# EAGLE library part MCP23009 (library AMP2-ICs)
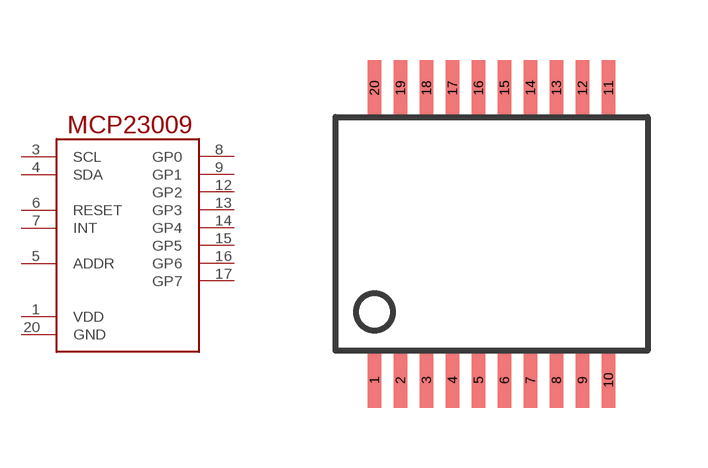
[diagram p70: symbol with the pads of SSOP20BU; footprint SSOP20BU]

Designator prefix -

## MCP23009  [SSOP20BU]
1  VDD
3  SCL
4  SDA
5  ADDR
6  RESET
7  INT
8  GP0
9  GP1
12  GP2
13  GP3
14  GP4
15  GP5
16  GP6
17  GP7
20  GND

## Footprint SSOP20BU (pad centres in mm)
Small Shrink Outline Package
smd 0.348 x 1.397: 1 -2.925,-3.656; 2 -2.275,-3.656; 3 -1.625,-3.656; 4 -0.975,-3.656; 5 -0.325,-3.656; 6 0.325,-3.656; 7 0.975,-3.656; 8 1.625,-3.656; 9 2.275,-3.656; 10 2.925,-3.656; 11 2.925,3.656; 12 2.275,3.656; 13 1.625,3.656; 14 0.975,3.656; 15 0.325,3.656; 16 -0.325,3.656; 17 -0.975,3.656; 18 -1.625,3.656; 19 -2.275,3.656; 20 -2.925,3.656